# EAGLE library part BLUETOOTH-RN42 (library RN42)
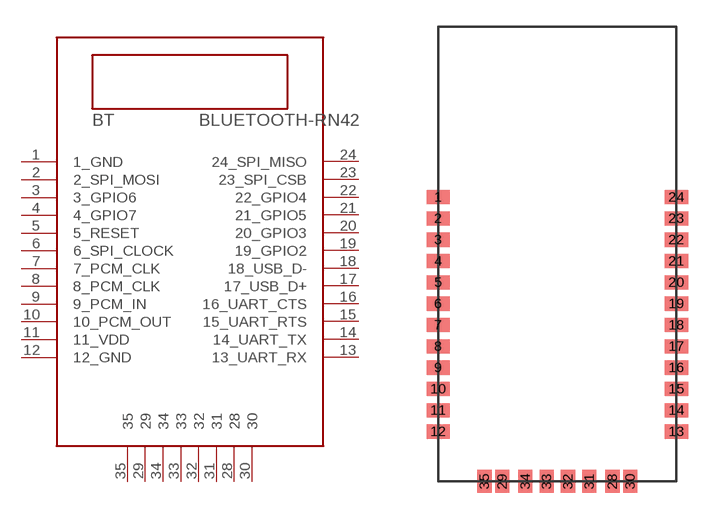
[diagram p0: symbol with the pads of RN42; footprint RN42]

Designator prefix BT

## BLUETOOTH-RN42  [RN42]
1  1_GND
2  2_SPI_MOSI
3  3_GPIO6
4  4_GPIO7
5  5_RESET
6  6_SPI_CLOCK
7  7_PCM_CLK
8  8_PCM_CLK
9  9_PCM_IN
10  10_PCM_OUT
11  11_VDD
12  12_GND
13  13_UART_RX
14  14_UART_TX
15  15_UART_RTS
16  16_UART_CTS
17  17_USB_D+
18  18_USB_D-
19  19_GPIO2
20  20_GPIO3
21  21_GPIO5
22  22_GPIO4
23  23_SPI_CSB
24  24_SPI_MISO
28  28
29  29
30  30
31  31
32  32
33  33
34  34
35  35

## Footprint RN42 (pad centres in mm)
smd 1.3 x 0.8: 1 -6.7,3.2; 2 -6.7,2; 3 -6.7,0.8; 4 -6.7,-0.4; 5 -6.7,-1.6; 6 -6.7,-2.8; 7 -6.7,-4; 8 -6.7,-5.2; 9 -6.7,-6.4; 10 -6.7,-7.6; 11 -6.7,-8.8; 12 -6.7,-10; 13 6.7,-10; 14 6.7,-8.8; 15 6.7,-7.6; 16 6.7,-6.4; 17 6.7,-5.2; 18 6.7,-4; 19 6.7,-2.8; 20 6.7,-1.6; 21 6.7,-0.4; 22 6.7,0.8; 23 6.7,2; 24 6.7,3.2
smd 0.8 x 1.3: 28 3.1,-12.8; 29 -3.1,-12.8; 30 4.1,-12.8; 31 1.8,-12.8; 32 0.6,-12.8; 33 -0.6,-12.8; 34 -1.8,-12.8; 35 -4.1,-12.8